# EAGLE library part SCC1300 (library m_ic-signal)
SCC1300-D02 COMBINED GYROSCOPE AND 3-AXIS ACCELEROMETER WITH DIGITAL SPI INTERFACES General Description SCC1300-D02 is a combined high performance gyroscope and accelerometer component. The sensor is based on VTI's proven capacitive 3D-MEMS technology. The component integrates angular rate and acceleration sensing together with flexible separate digital SPI interfaces. Small robust packaging guarantees reliable operation over product lifetime. The housing is suitable for SMD mounting and the component is compatible with RoHS and ELV directives. SCC1300-D02 is designed, manufactured and tested against high stability, reliability and quality requirements. The angular rate and acceleration sensors provide highly stable output over wide ranges of temperature and mechanical noise. The angular rate sensor bias stability is in the elite of MEMS gyros and it is also exceptionally insensitive to all mechanical vibrations and shocks. Component has several advanced self diagnostics features.
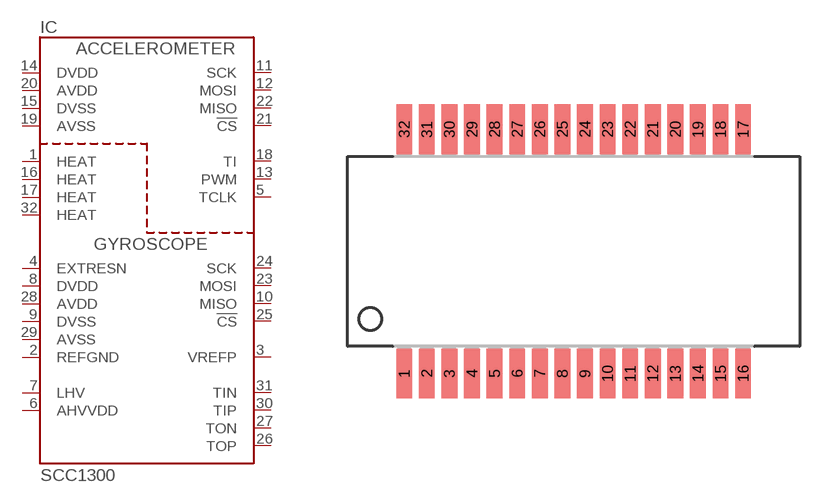
[diagram p6: symbol with the pads of VTI_SCC1300; footprint VTI_SCC1300]

Designator prefix IC

## SCC1300 (MANUF: VTI Technologies; PARTNUM: SCC1300-D02)  [VTI_SCC1300]
1  HEAT
2  REFGND
3  VREFP
4  EXTRESN
5  TCLK
6  AHVVDD
7  LHV
8  DVDD
9  DVSS
10  MISO
11  SCK
12  MOSI
13  PWM
14  DVDD
15  DVSS
16  HEAT
17  HEAT
18  TI
19  AVSS
20  AVDD
21  !CS
22  MISO
23  MOSI
24  SCK
25  !CS
26  TOP
27  TON
28  AVDD
29  AVSS
30  TIP
31  TIN
32  HEAT

## Footprint VTI_SCC1300 (pad centres in mm)
VTI Technologies SCC1300 Gyroscope/Accelerometer MEMS ASIC
smd 0.7 x 2.2: 1 -7.5,-5.4; 2 -6.5,-5.4; 3 -5.5,-5.4; 4 -4.5,-5.4; 5 -3.5,-5.4; 6 -2.5,-5.4; 7 -1.5,-5.4; 8 -0.5,-5.4; 9 0.5,-5.4; 10 1.5,-5.4; 11 2.5,-5.4; 12 3.5,-5.4; 13 4.5,-5.4; 14 5.5,-5.4; 15 6.5,-5.4; 16 7.5,-5.4; 17 7.5,5.4; 18 6.5,5.4; 19 5.5,5.4; 20 4.5,5.4; 21 3.5,5.4; 22 2.5,5.4; 23 1.5,5.4; 24 0.5,5.4; 25 -0.5,5.4; 26 -1.5,5.4; 27 -2.5,5.4; 28 -3.5,5.4; 29 -4.5,5.4; 30 -5.5,5.4; 31 -6.5,5.4; 32 -7.5,5.4